# Altium schematic symbol library MTMM-101-15-G-D-105.SchLib: 1 symbol
Pins are listed as number, name and electrical type; pins without a type are passive.

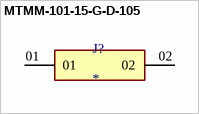
[diagram p0: symbol MTMM-101-15-G-D-105]

## MTMM-101-15-G-D-105
designator J?
Connector Header Through Hole 2 position; MP: MTMM-101-15-G-D-105; MF: Samtec; Check_prices: https://www.snapeda.com/parts/MTMM-101-15-G-D-105/Samtec/view-part/?ref=eda; Value: *; Availability: In Stock; Price: None; Package: None; SnapEDA_Link: https://www.snapeda.com/parts/MTMM-101-15-G-D-105/Samtec/view-part/?ref=snap; Purchase-URL: https://pricing.snapeda.com/search/part/MTMM-101-15-G-D-105/?ref=eda
footprint SAMTEC_MTMM-101-15-G-D-105
pins: 01, 02